# Altium schematic symbol library SG-636PCW_50.0000MC3__ROHS.SchLib: 1 symbol
Pins are listed as number, name and electrical type; pins without a type are passive.

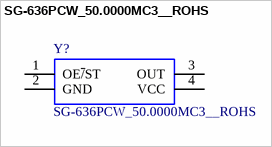
[diagram p0: symbol SG-636PCW_50.0000MC3__ROHS]

## SG-636PCW_50.0000MC3__ROHS
designator Y?
Standard Clock Oscillators 50MHz 3.3Volt 100ppm -20C +70C; Manufacturer_Name: Epson Timing; Manufacturer_Part_Number: SG-636PCW 50.0000MC3: ROHS; RS Part Number: *; RS Price/Stock: *; Arrow Part Number: SG-636PCW 50.0000MC3: ROHS; Arrow Price/Stock: *; Datasheet Link: http://www.mouser.com/ds/2/137/G-636PCE_en-1003252.pdf
footprint SG-636
pins: 1 OE~{/}ST, 2 GND, 3 OUT, 4 VCC (power)